# Altium schematic symbol library 无刷驱动-Infineon-AUIRS2181S-GTM-6S.SchLib: 61 symbols (part 1 of 2)
Pins are listed as number, name and electrical type; pins without a type are passive.

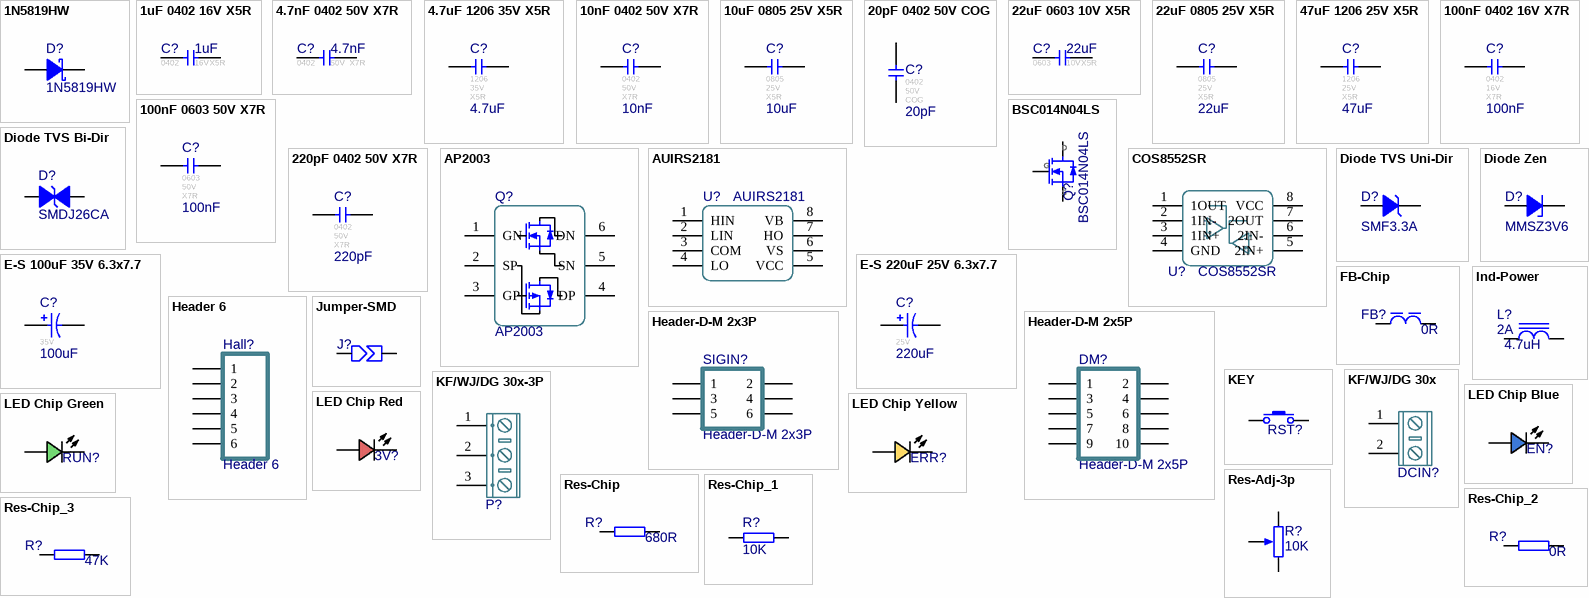
[diagram p0: symbols 1N5819HW to Res-Chip_3]

## 1N5819HW
designator D?
1N5819HW 肖特基二极管; Revision: V1.0; Value: 1N5819HW
footprint SOD-123-L (SOD Diode;2.70mm W X 1.60mm L X 1.35mm H body)
footprint SOD-323 (SOD Diode;1.65mm W X 1.24mm L X 1.16mm H body)
pins: A, K

## 1uF 0402 16V X5R
designator C?, comment value 1uF  FootPrint: 0402  Voltage: 16V  Type: X5R  (hidden comment: 1uF 16V X5R)
贴片瓷片电容; MLCC; 0402(1005);; Revision: V1.0
footprint CAPC1005[0402]-L (0402贴片电容 无丝印 2脚 1.00x0.50mm IPC高密度)
footprint CAPC1005[0402]-M (0402贴片电容 无丝印 2脚 1.00x0.50mm IPC低密度)
footprint CAPC1005[0402]-N (0402贴片电容 无丝印 2脚 1.00x0.50mm IPC中密度)
footprint CAPC1005[0402]S-L (0402贴片电容 有丝印 2脚 1.00x0.50mm IPC高密度)
footprint CAPC1005[0402]S-M (0402贴片电容 有丝印 2脚 1.00x0.50mm IPC低密度)
footprint CAPC1005[0402]S-N (0402贴片电容 有丝印 2脚 1.00x0.50mm IPC中密度)
pins: 1, 2

## 4.7nF 0402 50V X7R
designator C?, comment value 4.7nF  FootPrint: 0402  Voltage: 50V  Type: X7R  (hidden comment: 4.7nF 50V X7R)
贴片瓷片电容; MLCC; 0402(1005);; Revision: V1.0
footprint CAPC1005[0402]-L (0402贴片电容 无丝印 2脚 1.00x0.50mm IPC高密度)
footprint CAPC1005[0402]-M (0402贴片电容 无丝印 2脚 1.00x0.50mm IPC低密度)
footprint CAPC1005[0402]-N (0402贴片电容 无丝印 2脚 1.00x0.50mm IPC中密度)
footprint CAPC1005[0402]S-L (0402贴片电容 有丝印 2脚 1.00x0.50mm IPC高密度)
footprint CAPC1005[0402]S-M (0402贴片电容 有丝印 2脚 1.00x0.50mm IPC低密度)
footprint CAPC1005[0402]S-N (0402贴片电容 有丝印 2脚 1.00x0.50mm IPC中密度)
pins: 1, 2

## 4.7uF 1206 35V X5R
designator C?, comment value 4.7uF  FootPrint: 1206  Voltage: 35V  Type: X5R  (hidden comment: 4.7uF 35V X5R)
贴片瓷片电容; MLCC; 1206(3216);; Revision: V1.0
footprint CAPC3216[1206] (1206贴片电容 无丝印 2脚 3.20x1.60mm IPC中密度)
footprint CAPC3216[1206]S (1206贴片电容 有丝印 2脚 3.20x1.60mm IPC中密度)
pins: 1, 2

## 10nF 0402 50V X7R
designator C?, comment value 10nF  FootPrint: 0402  Voltage: 50V  Type: X7R  (hidden comment: 10nF 50V X7R)
贴片瓷片电容; MLCC; 0402(1005);; Revision: V1.0
footprint CAPC1005[0402]-L (0402贴片电容 无丝印 2脚 1.00x0.50mm IPC高密度)
footprint CAPC1005[0402]-M (0402贴片电容 无丝印 2脚 1.00x0.50mm IPC低密度)
footprint CAPC1005[0402]-N (0402贴片电容 无丝印 2脚 1.00x0.50mm IPC中密度)
footprint CAPC1005[0402]S-L (0402贴片电容 有丝印 2脚 1.00x0.50mm IPC高密度)
footprint CAPC1005[0402]S-M (0402贴片电容 有丝印 2脚 1.00x0.50mm IPC低密度)
footprint CAPC1005[0402]S-N (0402贴片电容 有丝印 2脚 1.00x0.50mm IPC中密度)
pins: 1, 2

## 10uF 0805 25V X5R
designator C?, comment value 10uF  FootPrint: 0805  Voltage: 25V  Type: X5R  (hidden comment: 10uF 25V X5R)
贴片瓷片电容; MLCC; 0805(2012);; Revision: V1.0
footprint CAPC2012[0805] (0805贴片电容 无丝印 2脚 2.00x1.20mm IPC中密度)
footprint CAPC2012[0805]S-L (0805贴片电容 有丝印 2脚 2.00x1.20mm IPC高密度)
footprint CAPC2012[0805]S-M (0805贴片电容 有丝印 2脚 2.00x1.20mm IPC低密度)
footprint CAPC2012[0805]S-N (0805贴片电容 有丝印 2脚 2.00x1.20mm IPC中密度)
pins: 1, 2

## 20pF 0402 50V COG
designator C?, comment value 20pF  FootPrint: 0402  Voltage: 50V  Type: COG  (hidden comment: 20pF 50V COG)
贴片瓷片电容; MLCC; 0402(1005);; Revision: V1.0
footprint CAPC1005[0402]-L (0402贴片电容 无丝印 2脚 1.00x0.50mm IPC高密度)
footprint CAPC1005[0402]-M (0402贴片电容 无丝印 2脚 1.00x0.50mm IPC低密度)
footprint CAPC1005[0402]-N (0402贴片电容 无丝印 2脚 1.00x0.50mm IPC中密度)
footprint CAPC1005[0402]S-L (0402贴片电容 有丝印 2脚 1.00x0.50mm IPC高密度)
footprint CAPC1005[0402]S-M (0402贴片电容 有丝印 2脚 1.00x0.50mm IPC低密度)
footprint CAPC1005[0402]S-N (0402贴片电容 有丝印 2脚 1.00x0.50mm IPC中密度)
pins: 1, 2

## 22uF 0603 10V X5R
designator C?, comment value 22uF  FootPrint: 0603  Voltage: 10V  Type: X5R  (hidden comment: 22uF 10V X5R)
贴片瓷片电容; MLCC; 0603(1608);; Revision: V1.0
footprint CAPC1608[0603]-L (0603贴片电容 无丝印 2脚 1.60x0.80mm IPC高密度)
footprint CAPC1608[0603]-M (0603贴片电容 无丝印 2脚 1.60x0.80mm IPC低密度)
footprint CAPC1608[0603]-N (0603贴片电容 无丝印 2脚 1.60x0.80mm IPC中密度)
footprint CAPC1608[0603]S-L (0603贴片电容 有丝印 2脚 1.60x0.80mm IPC高密度)
footprint CAPC1608[0603]S-M (0603贴片电容 有丝印 2脚 1.60x0.80mm IPC低密度)
footprint CAPC1608[0603]S-N (0603贴片电容 有丝印 2脚 1.60x0.80mm IPC中密度)
pins: 1, 2

## 22uF 0805 25V X5R
designator C?, comment value 22uF  FootPrint: 0805  Voltage: 25V  Type: X5R  (hidden comment: 22uF 25V X5R)
贴片瓷片电容; MLCC; 0805(2012);; Revision: V1.0
footprint CAPC2012[0805] (0805贴片电容 无丝印 2脚 2.00x1.20mm IPC中密度)
footprint CAPC2012[0805]S-L (0805贴片电容 有丝印 2脚 2.00x1.20mm IPC高密度)
footprint CAPC2012[0805]S-M (0805贴片电容 有丝印 2脚 2.00x1.20mm IPC低密度)
footprint CAPC2012[0805]S-N (0805贴片电容 有丝印 2脚 2.00x1.20mm IPC中密度)
pins: 1, 2

## 47uF 1206 25V X5R
designator C?, comment value 47uF  FootPrint: 1206  Voltage: 25V  Type: X5R  (hidden comment: 47uF 25V X5R)
贴片瓷片电容; MLCC; 1206(3216);; Revision: V1.0
footprint CAPC3216[1206] (1206贴片电容 无丝印 2脚 3.20x1.60mm IPC中密度)
footprint CAPC3216[1206]S (1206贴片电容 有丝印 2脚 3.20x1.60mm IPC中密度)
pins: 1, 2

## 100nF 0402 16V X7R
designator C?, comment value 100nF  FootPrint: 0402  Voltage: 16V  Type: X7R  (hidden comment: 100nF 16V X7R)
贴片瓷片电容; MLCC; 0402(1005);; Revision: V1.0
footprint CAPC1005[0402]-L (0402贴片电容 无丝印 2脚 1.00x0.50mm IPC高密度)
footprint CAPC1005[0402]-M (0402贴片电容 无丝印 2脚 1.00x0.50mm IPC低密度)
footprint CAPC1005[0402]-N (0402贴片电容 无丝印 2脚 1.00x0.50mm IPC中密度)
footprint CAPC1005[0402]S-L (0402贴片电容 有丝印 2脚 1.00x0.50mm IPC高密度)
footprint CAPC1005[0402]S-M (0402贴片电容 有丝印 2脚 1.00x0.50mm IPC低密度)
footprint CAPC1005[0402]S-N (0402贴片电容 有丝印 2脚 1.00x0.50mm IPC中密度)
pins: 1, 2

## 100nF 0603 50V X7R
designator C?, comment value 100nF  FootPrint: 0603  Voltage: 50V  Type: X7R  (hidden comment: 100nF 50V X7R)
贴片瓷片电容; MLCC; 0603(1608);; Revision: V1.0
footprint CAPC1608[0603]-L (0603贴片电容 无丝印 2脚 1.60x0.80mm IPC高密度)
footprint CAPC1608[0603]-M (0603贴片电容 无丝印 2脚 1.60x0.80mm IPC低密度)
footprint CAPC1608[0603]-N (0603贴片电容 无丝印 2脚 1.60x0.80mm IPC中密度)
footprint CAPC1608[0603]S-L (0603贴片电容 有丝印 2脚 1.60x0.80mm IPC高密度)
footprint CAPC1608[0603]S-M (0603贴片电容 有丝印 2脚 1.60x0.80mm IPC低密度)
footprint CAPC1608[0603]S-N (0603贴片电容 有丝印 2脚 1.60x0.80mm IPC中密度)
pins: 1, 2

## 220pF 0402 50V X7R
designator C?, comment value 220pF  FootPrint: 0402  Voltage: 50V  Type: X7R  (hidden comment: 220pF 50V X7R)
贴片瓷片电容; MLCC; 0402(1005);; Revision: V1.0
footprint CAPC1005[0402]-L (0402贴片电容 无丝印 2脚 1.00x0.50mm IPC高密度)
footprint CAPC1005[0402]-M (0402贴片电容 无丝印 2脚 1.00x0.50mm IPC低密度)
footprint CAPC1005[0402]-N (0402贴片电容 无丝印 2脚 1.00x0.50mm IPC中密度)
footprint CAPC1005[0402]S-L (0402贴片电容 有丝印 2脚 1.00x0.50mm IPC高密度)
footprint CAPC1005[0402]S-M (0402贴片电容 有丝印 2脚 1.00x0.50mm IPC低密度)
footprint CAPC1005[0402]S-N (0402贴片电容 有丝印 2脚 1.00x0.50mm IPC中密度)
pins: 1, 2

## AP2003
designator Q?
AP2003 N+P
footprint SOT-23-6 (SOT23, 6-Leads, Body 2.90x2.80mm, Pitch 0.95mm, IPC Medium Density)
pins: 1 GN, 2 SP, 3 GP, 4 DP, 5 SN, 6 DN

## AUIRS2181
designator U?
footprint SOP-8 (SOIC,1.27mm pitch;8 pin,3.90mm W X 4.88mm L X 1.73mm H body)
pins: 1 HIN, 2 LIN, 3 COM, 4 LO, 5 VCC, 6 VS, 7 HO, 8 VB

## BSC014N04LS
designator Q?
英飞凌 N沟 MOS
footprint TDSON-8
pins: 1 D, 2 G, 3 S

## COS8552SR
designator U?
COS8552SR 二路通用运算放大器
footprint SOP-8 (SOIC,1.27mm pitch;8 pin,3.90mm W X 4.88mm L X 1.73mm H body)
pins: 1 1OUT, 2 1IN-, 3 1IN+, 4 GND, 5 2IN+, 6 2IN-, 7 2OUT, 8 VCC

## Diode TVS Bi-Dir
designator D?, comment SMDJ26CA
TRANSIENT VOLTAGE  SUPPRESSOR DIODE; Imax: 500mA; Published: 8-Jun-2000; Publisher: Altium Limited; Price(RMB): 0.000
footprint DO-41 (Diode,Axial;8.30mm C X 0.70mm W 4.60mm L X 2.40mm Dia)
footprint SMA[DO-214AC] (Molded Diode, 2-Leads, Body 5.00x2.49mm, IPC Medium Density)
footprint SMB[DO-214AA] (Molded Diode, 2-Leads, Body 5.30x3.55mm, IPC Medium Density)
footprint SMC[DO-214AB] (Molded Diode, 2-Leads, Body 7.94x5.90mm, IPC Medium Density)
footprint SOD-123-FL (SOD Diode;2.70mm W X 1.60mm L X 1.35mm H body)
footprint SOD-323 (SOD Diode;1.65mm W X 1.24mm L X 1.16mm H body)
footprint SOD-523-M (SODFL Diode;1.20mm W X 0.80mm L X 0.70mm H body)
footprint SOD-123-L (SOD Diode;2.70mm W X 1.60mm L X 1.35mm H body)
footprint SOD-123-M (SOD Diode;2.70mm W X 1.60mm L X 1.35mm H body)
footprint SOD-523-L (SODFL Diode;1.20mm W X 0.80mm L X 0.70mm H body)
footprint SMC[DO-214AB]-Bi (Molded Diode, 2-Leads, Body 7.94x5.90mm, IPC Medium Density)
pins: A, K

## Diode TVS Uni-Dir
designator D?, comment SMF3.3A
TRANSIENT VOLTAGE  SUPPRESSOR DIODE; Imax: 500mA; Published: 8-Jun-2000; Publisher: Altium Limited; Price(RMB): 0.000
footprint DO-41 (Diode,Axial;8.30mm C X 0.70mm W 4.60mm L X 2.40mm Dia)
footprint SMA[DO-214AC] (Molded Diode, 2-Leads, Body 5.00x2.49mm, IPC Medium Density)
footprint SMB[DO-214AA] (Molded Diode, 2-Leads, Body 5.30x3.55mm, IPC Medium Density)
footprint SMC[DO-214AB] (Molded Diode, 2-Leads, Body 7.94x5.90mm, IPC Medium Density)
footprint SOD-123-FL (SOD Diode;2.70mm W X 1.60mm L X 1.35mm H body)
footprint SOD-323 (SOD Diode;1.65mm W X 1.24mm L X 1.16mm H body)
footprint SOD-123-L (SOD Diode;2.70mm W X 1.60mm L X 1.35mm H body)
footprint SOD-523-L (SODFL Diode;1.20mm W X 0.80mm L X 0.70mm H body)
footprint SOD-123-M (SOD Diode;2.70mm W X 1.60mm L X 1.35mm H body)
footprint SOD-523-M (SODFL Diode;1.20mm W X 0.80mm L X 0.70mm H body)
pins: A, K

## Diode Zen
designator D?, comment MMSZ3V6
稳压二极管 齐纳二极管  Zener Diode; Published: 8-Jun-2000; Revision: July-2002: Re-released for DXP Platform.; Publisher: Altium Limited; Price(RMB): 0.000
footprint DIODE-0.7 (Zener Diode; 2 Leads)
footprint DIODE-0.4
footprint SOD-87[LL-41] (MELF Diode, 2-Leads, Body 5.00x2.49mm, IPC Medium Density)
footprint CD4521-1808
footprint SOD-80[LL-34] (MELF Diode, 2-Leads, Body 3.55x1.65mm, IPC Medium Density)
footprint SOD-123-FL (SOD Diode;2.70mm W X 1.60mm L X 1.35mm H body)
footprint SOD-123-L (SOD Diode;2.70mm W X 1.60mm L X 1.35mm H body)
footprint SOD-123-M (SOD Diode;2.70mm W X 1.60mm L X 1.35mm H body)
footprint SOD-323 (SOD Diode;1.65mm W X 1.24mm L X 1.16mm H body)
footprint SOD-523-L (SODFL Diode;1.20mm W X 0.80mm L X 0.70mm H body)
footprint SOD-523-M (SODFL Diode;1.20mm W X 0.80mm L X 0.70mm H body)
pins: A, K

## E-S 100uF 35V 6.3x7.7
designator C?, comment value 100uF  Voltage: 35V  (hidden comment: 100uF 35V 铝电解)
贴片电解电容 100uF 35V 6.3x7.7; Revision: V1.0; Type: 铝电解
footprint CAP-E-S 6.3 (贴片 铝电解电容 6.3mm)
pins: 1, 2

## E-S 220uF 25V 6.3x7.7
designator C?, comment value 220uF  Voltage: 25V  (hidden comment: 220uF 25V 铝电解)
贴片电解电容 220uF 25V 6.3x7.7; Revision: V1.0; Type: 铝电解
footprint CAP-E-S 6.3 (贴片 铝电解电容 6.3mm)
pins: 1, 2

## FB-Chip
designator FB?, comment value 0R  (hidden comment: 0R @100MHz 500mA)
贴片磁珠; DCR: .1m; Published: 2020-12-18; Revision: V1.0; Frequency: @100MHz; Imax: 500mA
footprint INDC1608[0603]S (Not in IPC, Chip Inductor,Silkscreen Border, 2-Leads, Body 1.60x0.80mm, IPC Medium Density)
footprint INDC2012[0805]S (Chip Inductor,Silkscreen Border, 2-Leads, Body 2.00x0.90mm, IPC Medium Density)
footprint INDC3216[1206]S (Chip Inductor,Silkscreen Border, 2-Leads, Body 3.20x1.60mm, IPC Medium Density)
footprint INDC4509[1806]S (Chip Inductor,Silkscreen Border, 2-Leads, Body 4.50x0.90mm, IPC Medium Density)
footprint INDC1005[0402] (Chip Inductor, 2-Leads, Body 1.00x0.50mm, IPC Medium Density)
footprint INDC1608[0603] (Chip Inductor, 2-Leads, Body 1.60x0.80mm, IPC Medium Density)
footprint INDC2012[0805] (Chip Inductor, 2-Leads, Body 2.00x0.90mm, IPC Medium Density)
footprint INDC3216[1206] (Chip Inductor, 2-Leads, Body 3.20x1.60mm, IPC Medium Density)
footprint INDC3225[1210] (Capacitor,non-polarized,Chip;3.20mm L X 2.50mm W X 1.35mm H)
footprint INDC3216[1206] (Chip Inductor, 2-Leads, Body 3.20x1.60mm, IPC Medium Density)
footprint INDC1005[0402]S (Chip Inductor, 2-Leads, Body 1.00x0.50mm, IPC Medium Density)
pins: 1, 2

## Header 6
designator Hall?
Header, 6-Pin; LatestRevisionDate: 17-Jul-2002; LatestRevisionNote: Re-released for DXP Platform.; Publisher: Altium Limited; Price(RMB): 0.00
footprint HDR1X6 (Connector; Header; 6 Position)
signal-integrity model Connector
footprint PH2.0-6 (PH2.0 9 pin)
footprint XH2.54-6
footprint VH3.96-6
footprint GH1.25T-6P (线对板 1.25mm间距 6P 表贴连接座)
footprint ZH1.5-6P-SH (ZH1.5-6P 贴片 卧式)
pins: 1, 2, 3, 4, 5, 6

## Header-D-M 2x3P
designator SIGIN?
2x3pin, 直插, 双排针; Revision: V1.0; Value: Header-D-M 2x3P
footprint HDR2X3-M (2x3pin, 2.54mm间距, 直插, 直排针)
pins: 1, 2, 3, 4, 5, 6

## Header-D-M 2x5P
designator DM?
2x5pin, 直插, 双排针; Revision: V1.0; Value: Header-D-M 2x5P
footprint HDR2X5-M (2x5pin, 2.54mm间距, 直插, 直排针)
pins: 1, 2, 3, 4, 5, 6, 7, 8, 9, 10

## Ind-Power
designator L?, comment value 4.7uH  Imax: 2A  (hidden comment: 4.7uH 2A)
功率电感; DCR: .5m; Published: 8-Jun-2000; Revision: July-2002: Re-released for DXP Platform.; Publisher: Altium Limited; Price(RMB): 0.000
footprint CD31
footprint CD32
footprint CD42
footprint CD43
footprint CD52
footprint CD53
footprint CD54
footprint CD73
footprint CD75
footprint CD104
footprint CD105
footprint CD106
footprint 127 Shielded 12.5*12.5*7 (12.5mmx12.5mmx7mm 屏蔽电感)
footprint 0630 TPC 7*7*3 (12mmx12mmx6.5mm 一体成型功率电感)
footprint 1050 TPC 10*10*5 (12mmx12mmx6.5mm 一体成型功率电感)
footprint 1265 TPC 12*12*6.5 (12mmx12mmx6.5mm 一体成型功率电感)
footprint CD104R
footprint SLO2520
footprint 1365 TPC 13*13*6.5 (13mmx13mmx6.5mm 一体成型功率电感)
footprint INDUCTOR (工字电感 安装板专用封装)
footprint 0402 TPC 4*4*2 (4.2mm x 4.4mm x 2mm 一体成型功率电感)
pins: 1, 2

## Jumper-SMD
designator J?, comment Jumper  (value not drawn)
表贴式跳线，兼容电阻封装
footprint Jumper-SMD-0402 (0402 表贴式跳线 无丝印)
footprint Jumper-SMD-0603 (0603 表贴式跳线 无丝印)
footprint Jumper-SMD-0603-S (0603 表贴式跳线 有丝印)
footprint Jumper-SMD-0805 (0805 表贴式跳线 无丝印)
footprint Jumper-SMD-0805-S (0805 表贴式跳线 有丝印)
pins: 1, 2

## KEY
designator RST?, comment Button  (value not drawn)
按键; Published: 24-Mar-1999; Publisher: Altium Limited; Price(RMB): 0.000
footprint KEY-2-SMD-3*4 (龟仔按键 3*4)
footprint KEY-4-DIP-6*6 (6x6 直插按键封装)
footprint PTS810-3*4-CurvePin (3*4 白色 汽车遥控器贴片按键 包脚)
footprint KEY-2-SMD-3*6-L (3x6贴片按键 高密度)
footprint KEY-2-SMD-3*6-M (3x6贴片按键 低密度)
footprint KEY-4-SMD-6*6 (6x6贴片按键封装)
footprint KEY-2-SMD-Side-3*6*3.5 (7.6x3.5mm 侧按按键)
footprint KEY-4-SMD-12*12 (6x6贴片按键封装)
footprint TS-1809SM-A (3*3.5 贴片4脚按键 (TS-A015))
footprint TS-1199A (星坤TS-1199A 静音按键)
footprint KEY-2-DIP-6*6-S (6x6 直插按键立式封装)
pins: 1, 2

## KF/WJ/DG 30x
designator DCIN?, comment KF/WJ/DG 30x connecter  (value not drawn)
接线端子 2Pin
footprint KF/WJ/DG 301-2p-5.0mm (2P 5.08mm间距 接线端子)
pins: 1, 2

## KF/WJ/DG 30x-3P
designator P?, comment KF/WJ/DG 30x connecter  (value not drawn)
接线端子 3Pin
footprint KF/WJ/DG 301-3p-5.0mm (3P 5.08mm间距 接线端子)
pins: 1, 2, 3 2

## LED Chip Blue
designator EN?, comment 蓝色贴片LED  (value not drawn)
Published: 8-Jun-2000; Revision: July-2002: Re-released for DXP Platform.; Publisher: Altium Limited; Price(RMB): 0.00; Color: Blue
footprint LEDC1608(0603) (LED,Chip;1.60mm L X 0.80mm W X 0.80mm H)
footprint LEDC2012(0805) (LED,Chip;2.00mm L X 1.25mm W X 1.20mm H)
footprint LEDC3216(1206) (LED,Chip;3.20mm L X 1.60mm W X 1.30mm H)
footprint LEDC1608(0603)-L (LED,Chip;1.60mm L X 0.80mm W X 0.80mm H)
footprint LEDC2012(0805)-L (LED,Chip;2.00mm L X 1.25mm W X 1.20mm H)
footprint LEDC3216(1204) (LED,Chip;3.20mm L X 1.60mm W X 1.30mm H)
footprint LEDC3528-2 (3528 2脚 贴片LED)
pins: A, C

## LED Chip Green
designator RUN?, comment 翠绿贴片LED  (value not drawn)
Published: 8-Jun-2000; Revision: July-2002: Re-released for DXP Platform.; Publisher: Altium Limited; Price(RMB): 0.00
footprint LEDC1608(0603) (LED,Chip;1.60mm L X 0.80mm W X 0.80mm H)
footprint LEDC2012(0805) (LED,Chip;2.00mm L X 1.25mm W X 1.20mm H)
footprint LEDC3216(1206) (LED,Chip;3.20mm L X 1.60mm W X 1.30mm H)
footprint LEDC1608(0603)-L (LED,Chip;1.60mm L X 0.80mm W X 0.80mm H)
footprint LEDC2012(0805)-L (LED,Chip;2.00mm L X 1.25mm W X 1.20mm H)
footprint LEDC3216(1204) (LED,Chip;3.20mm L X 1.60mm W X 1.30mm H)
footprint LEDC3528-2 (3528 2脚 贴片LED)
pins: A, C

## LED Chip Red
designator 3V?, comment 红色贴片LED  (value not drawn)
Published: 8-Jun-2000; Revision: July-2002: Re-released for DXP Platform.; Publisher: Altium Limited; Price(RMB): 0.00
footprint LEDC1608(0603) (LED,Chip;1.60mm L X 0.80mm W X 0.80mm H)
footprint LEDC2012(0805) (LED,Chip;2.00mm L X 1.25mm W X 1.20mm H)
footprint LEDC3216(1206) (LED,Chip;3.20mm L X 1.60mm W X 1.30mm H)
footprint LEDC1608(0603)-L (LED,Chip;1.60mm L X 0.80mm W X 0.80mm H)
footprint LEDC2012(0805)-L (LED,Chip;2.00mm L X 1.25mm W X 1.20mm H)
footprint LEDC3216(1204) (LED,Chip;3.20mm L X 1.60mm W X 1.30mm H)
footprint LEDC3528-2 (3528 2脚 贴片LED)
pins: A, C

## LED Chip Yellow
designator ERR?, comment 黄色贴片LED  (value not drawn)
Published: 8-Jun-2000; Revision: July-2002: Re-released for DXP Platform.; Publisher: Altium Limited; Price(RMB): 0.00
footprint LEDC1608(0603) (LED,Chip;1.60mm L X 0.80mm W X 0.80mm H)
footprint LEDC2012(0805) (LED,Chip;2.00mm L X 1.25mm W X 1.20mm H)
footprint LEDC3216(1206) (LED,Chip;3.20mm L X 1.60mm W X 1.30mm H)
footprint LEDC1608(0603)-L (LED,Chip;1.60mm L X 0.80mm W X 0.80mm H)
footprint LEDC2012(0805)-L (LED,Chip;2.00mm L X 1.25mm W X 1.20mm H)
footprint LEDC3216(1204) (LED,Chip;3.20mm L X 1.60mm W X 1.30mm H)
footprint LEDC3528-2 (3528 2脚 贴片LED)
pins: A, C

## Res-Adj-3p
designator R?, comment 10K
可调电阻; Revision: V1.0; Value: 10K
footprint EVM3-3x3ADJ (3x3贴片电位器)
footprint RESPOT3296W (3296W 精密可调电阻 顶调)
footprint RESPOT3296X (3296X 精密可调电阻 侧调)
footprint RESPOT3362 (Precise Multi-Winding Adjustable Resistor)
footprint RESPOT3386P (3386P型 单圈带柄电位器)
pins: 1 TOP, 2 BOT, ADJ

## Res-Chip
designator R?, comment value 680R  (hidden comment: 680R ±1%)
贴片电阻; Power: 1/8W; Revision: V1.0; Tolerance: ±1%
footprint RESC0603[0201]-L (0201贴片电阻 无丝印 2脚 0.60x0.30mm IPC高密度)
footprint RESC0603[0201]-M (0201贴片电阻 无丝印 2脚 0.60x0.30mm IPC低密度)
footprint RESC0603[0201]-N (0201贴片电阻 无丝印 2脚 0.60x0.30mm IPC中密度)
footprint RESC0603[0201]S-L (0201贴片电阻 有丝印 2脚 0.60x0.30mm IPC高密度)
footprint RESC0603[0201]S-M (0201贴片电阻 有丝印 2脚 0.60x0.30mm IPC低密度)
footprint RESC0603[0201]S-N (0201贴片电阻 有丝印 2脚 0.60x0.30mm IPC中密度)
footprint RESC1005[0402]-L (0402贴片电阻 无丝印 2脚 1.00x0.50mm IPC高密度)
footprint RESC1005[0402]S-M (0402贴片电阻 有丝印 2脚 1.00x0.50mm IPC低密度)
footprint RESC1005[0402]-M (0402贴片电阻 无丝印 2脚 1.00x0.50mm IPC低密度)
footprint RESC1005[0402]-N (0402贴片电阻 无丝印 2脚 1.00x0.50mm IPC中密度)
footprint RESC1005[0402]S-L (0402贴片电阻 有丝印 2脚 1.00x0.50mm IPC高密度)
footprint RESC1005[0402]S-N (0402贴片电阻 有丝印 2脚 1.00x0.50mm IPC中密度)
footprint RESC1608[0603]-L (0603贴片电阻 无丝印 2脚 1.60x0.80mm IPC高密度)
footprint RESC1608[0603]-M (0603贴片电阻 无丝印 2脚 1.60x0.80mm IPC低密度)
footprint RESC1608[0603]-N (0603贴片电阻 无丝印 2脚 1.60x0.80mm IPC中密度)
footprint RESC1608[0603]S-L (0603贴片电阻 有丝印 2脚 1.60x0.80mm IPC高密度)
footprint RESC1608[0603]S-M (0603贴片电阻 有丝印 2脚 1.60x0.80mm IPC低密度)
footprint RESC1608[0603]S-N (0603贴片电阻 有丝印 2脚 1.60x0.80mm IPC中密度)
footprint RESC2012[0805] (0805贴片电阻 无丝印 2脚 2.00x1.20mm IPC高密度)
footprint RESC2012[0805]S-L (0805贴片电阻 有丝印 2脚 2.00x1.20mm IPC高密度)
footprint RESC2012[0805]S-M (0805贴片电阻 有丝印 2脚 2.00x1.20mm IPC低密度)
footprint RESC2012[0805]S-N (0805贴片电阻 有丝印 2脚 2.00x1.20mm IPC中密度)
footprint RESC3216[1206] (1206贴片电阻 无丝印 2脚 3.20x1.60mm IPC高密度)
footprint RESC3216[1206]S-L (1206贴片电阻 有丝印 2脚 3.20x1.60mm IPC高密度)
footprint RESC3216[1206]S-M (1206贴片电阻 有丝印 2脚 3.20x1.60mm IPC低密度)
footprint RESC3216[1206]S-N (1206贴片电阻 有丝印 2脚 3.20x1.60mm IPC中密度)
footprint RESC3225[1210] (Chip Resistor, 2-Leads, Body 3.20x2.49mm, IPC Medium Density)
footprint RESC3225[1210]S (Silkscreen Outside, Chip Resistor, 2-Leads, Body 3.20x2.49mm, IPC Medium Density)
footprint RESC5025[2010] (Chip Resistor, 2-Leads, Body 5.00x2.50mm, IPC Medium Density)
footprint RESC5025[2010]S (Silkscreen Outside, Chip Resistor, 2-Leads, Body 5.00x2.50mm, IPC Medium Density)
footprint RESC6332[2512] (2512贴片电阻 无丝印 2脚 6.30x3.20mm IPC中密度)
footprint RESC6332[2512]S (2512贴片电阻 有丝印 2脚 6.30x3.20mm IPC中密度)
pins: 1, 2

## Res-Chip_1
designator R?, comment value 10K  (hidden comment: 10K ±1%)
贴片电阻; Power: 1/8W; Revision: V1.0; Tolerance: ±1%
footprint RESC0603[0201]-L (0201贴片电阻 无丝印 2脚 0.60x0.30mm IPC高密度)
footprint RESC0603[0201]-M (0201贴片电阻 无丝印 2脚 0.60x0.30mm IPC低密度)
footprint RESC0603[0201]-N (0201贴片电阻 无丝印 2脚 0.60x0.30mm IPC中密度)
footprint RESC0603[0201]S-L (0201贴片电阻 有丝印 2脚 0.60x0.30mm IPC高密度)
footprint RESC0603[0201]S-M (0201贴片电阻 有丝印 2脚 0.60x0.30mm IPC低密度)
footprint RESC0603[0201]S-N (0201贴片电阻 有丝印 2脚 0.60x0.30mm IPC中密度)
footprint RESC1005[0402]-L (0402贴片电阻 无丝印 2脚 1.00x0.50mm IPC高密度)
footprint RESC1005[0402]S-M (0402贴片电阻 有丝印 2脚 1.00x0.50mm IPC低密度)
footprint RESC1005[0402]-M (0402贴片电阻 无丝印 2脚 1.00x0.50mm IPC低密度)
footprint RESC1005[0402]-N (0402贴片电阻 无丝印 2脚 1.00x0.50mm IPC中密度)
footprint RESC1005[0402]S-L (0402贴片电阻 有丝印 2脚 1.00x0.50mm IPC高密度)
footprint RESC1005[0402]S-N (0402贴片电阻 有丝印 2脚 1.00x0.50mm IPC中密度)
footprint RESC1608[0603]-L (0603贴片电阻 无丝印 2脚 1.60x0.80mm IPC高密度)
footprint RESC1608[0603]-M (0603贴片电阻 无丝印 2脚 1.60x0.80mm IPC低密度)
footprint RESC1608[0603]-N (0603贴片电阻 无丝印 2脚 1.60x0.80mm IPC中密度)
footprint RESC1608[0603]S-L (0603贴片电阻 有丝印 2脚 1.60x0.80mm IPC高密度)
footprint RESC1608[0603]S-M (0603贴片电阻 有丝印 2脚 1.60x0.80mm IPC低密度)
footprint RESC1608[0603]S-N (0603贴片电阻 有丝印 2脚 1.60x0.80mm IPC中密度)
footprint RESC2012[0805] (0805贴片电阻 无丝印 2脚 2.00x1.20mm IPC高密度)
footprint RESC2012[0805]S-L (0805贴片电阻 有丝印 2脚 2.00x1.20mm IPC高密度)
footprint RESC2012[0805]S-M (0805贴片电阻 有丝印 2脚 2.00x1.20mm IPC低密度)
footprint RESC2012[0805]S-N (0805贴片电阻 有丝印 2脚 2.00x1.20mm IPC中密度)
footprint RESC3216[1206] (1206贴片电阻 无丝印 2脚 3.20x1.60mm IPC高密度)
footprint RESC3216[1206]S-L (1206贴片电阻 有丝印 2脚 3.20x1.60mm IPC高密度)
footprint RESC3216[1206]S-M (1206贴片电阻 有丝印 2脚 3.20x1.60mm IPC低密度)
footprint RESC3216[1206]S-N (1206贴片电阻 有丝印 2脚 3.20x1.60mm IPC中密度)
footprint RESC3225[1210] (Chip Resistor, 2-Leads, Body 3.20x2.49mm, IPC Medium Density)
footprint RESC3225[1210]S (Silkscreen Outside, Chip Resistor, 2-Leads, Body 3.20x2.49mm, IPC Medium Density)
footprint RESC5025[2010] (Chip Resistor, 2-Leads, Body 5.00x2.50mm, IPC Medium Density)
footprint RESC5025[2010]S (Silkscreen Outside, Chip Resistor, 2-Leads, Body 5.00x2.50mm, IPC Medium Density)
footprint RESC6332[2512] (2512贴片电阻 无丝印 2脚 6.30x3.20mm IPC中密度)
footprint RESC6332[2512]S (2512贴片电阻 有丝印 2脚 6.30x3.20mm IPC中密度)
pins: 1, 2

## Res-Chip_2
designator R?, comment value 0R  (hidden comment: 0R ±1%)
贴片电阻; Power: 1/8W; Revision: V1.0; Tolerance: ±1%
footprint RESC0603[0201]-L (0201贴片电阻 无丝印 2脚 0.60x0.30mm IPC高密度)
footprint RESC0603[0201]-M (0201贴片电阻 无丝印 2脚 0.60x0.30mm IPC低密度)
footprint RESC0603[0201]-N (0201贴片电阻 无丝印 2脚 0.60x0.30mm IPC中密度)
footprint RESC0603[0201]S-L (0201贴片电阻 有丝印 2脚 0.60x0.30mm IPC高密度)
footprint RESC0603[0201]S-M (0201贴片电阻 有丝印 2脚 0.60x0.30mm IPC低密度)
footprint RESC0603[0201]S-N (0201贴片电阻 有丝印 2脚 0.60x0.30mm IPC中密度)
footprint RESC1005[0402]-L (0402贴片电阻 无丝印 2脚 1.00x0.50mm IPC高密度)
footprint RESC1005[0402]S-M (0402贴片电阻 有丝印 2脚 1.00x0.50mm IPC低密度)
footprint RESC1005[0402]-M (0402贴片电阻 无丝印 2脚 1.00x0.50mm IPC低密度)
footprint RESC1005[0402]-N (0402贴片电阻 无丝印 2脚 1.00x0.50mm IPC中密度)
footprint RESC1005[0402]S-L (0402贴片电阻 有丝印 2脚 1.00x0.50mm IPC高密度)
footprint RESC1005[0402]S-N (0402贴片电阻 有丝印 2脚 1.00x0.50mm IPC中密度)
footprint RESC1608[0603]-L (0603贴片电阻 无丝印 2脚 1.60x0.80mm IPC高密度)
footprint RESC1608[0603]-M (0603贴片电阻 无丝印 2脚 1.60x0.80mm IPC低密度)
footprint RESC1608[0603]-N (0603贴片电阻 无丝印 2脚 1.60x0.80mm IPC中密度)
footprint RESC1608[0603]S-L (0603贴片电阻 有丝印 2脚 1.60x0.80mm IPC高密度)
footprint RESC1608[0603]S-M (0603贴片电阻 有丝印 2脚 1.60x0.80mm IPC低密度)
footprint RESC1608[0603]S-N (0603贴片电阻 有丝印 2脚 1.60x0.80mm IPC中密度)
footprint RESC2012[0805] (0805贴片电阻 无丝印 2脚 2.00x1.20mm IPC高密度)
footprint RESC2012[0805]S-L (0805贴片电阻 有丝印 2脚 2.00x1.20mm IPC高密度)
footprint RESC2012[0805]S-M (0805贴片电阻 有丝印 2脚 2.00x1.20mm IPC低密度)
footprint RESC2012[0805]S-N (0805贴片电阻 有丝印 2脚 2.00x1.20mm IPC中密度)
footprint RESC3216[1206] (1206贴片电阻 无丝印 2脚 3.20x1.60mm IPC高密度)
footprint RESC3216[1206]S-L (1206贴片电阻 有丝印 2脚 3.20x1.60mm IPC高密度)
footprint RESC3216[1206]S-M (1206贴片电阻 有丝印 2脚 3.20x1.60mm IPC低密度)
footprint RESC3216[1206]S-N (1206贴片电阻 有丝印 2脚 3.20x1.60mm IPC中密度)
footprint RESC3225[1210] (Chip Resistor, 2-Leads, Body 3.20x2.49mm, IPC Medium Density)
footprint RESC3225[1210]S (Silkscreen Outside, Chip Resistor, 2-Leads, Body 3.20x2.49mm, IPC Medium Density)
footprint RESC5025[2010] (Chip Resistor, 2-Leads, Body 5.00x2.50mm, IPC Medium Density)
footprint RESC5025[2010]S (Silkscreen Outside, Chip Resistor, 2-Leads, Body 5.00x2.50mm, IPC Medium Density)
footprint RESC6332[2512] (2512贴片电阻 无丝印 2脚 6.30x3.20mm IPC中密度)
footprint RESC6332[2512]S (2512贴片电阻 有丝印 2脚 6.30x3.20mm IPC中密度)
pins: 1, 2

## Res-Chip_3
designator R?, comment value 47K  (hidden comment: 47K ±1%)
贴片电阻; Power: 1/8W; Revision: V1.0; Tolerance: ±1%
footprint RESC0603[0201]-L (0201贴片电阻 无丝印 2脚 0.60x0.30mm IPC高密度)
footprint RESC0603[0201]-M (0201贴片电阻 无丝印 2脚 0.60x0.30mm IPC低密度)
footprint RESC0603[0201]-N (0201贴片电阻 无丝印 2脚 0.60x0.30mm IPC中密度)
footprint RESC0603[0201]S-L (0201贴片电阻 有丝印 2脚 0.60x0.30mm IPC高密度)
footprint RESC0603[0201]S-M (0201贴片电阻 有丝印 2脚 0.60x0.30mm IPC低密度)
footprint RESC0603[0201]S-N (0201贴片电阻 有丝印 2脚 0.60x0.30mm IPC中密度)
footprint RESC1005[0402]-L (0402贴片电阻 无丝印 2脚 1.00x0.50mm IPC高密度)
footprint RESC1005[0402]S-M (0402贴片电阻 有丝印 2脚 1.00x0.50mm IPC低密度)
footprint RESC1005[0402]-M (0402贴片电阻 无丝印 2脚 1.00x0.50mm IPC低密度)
footprint RESC1005[0402]-N (0402贴片电阻 无丝印 2脚 1.00x0.50mm IPC中密度)
footprint RESC1005[0402]S-L (0402贴片电阻 有丝印 2脚 1.00x0.50mm IPC高密度)
footprint RESC1005[0402]S-N (0402贴片电阻 有丝印 2脚 1.00x0.50mm IPC中密度)
footprint RESC1608[0603]-L (0603贴片电阻 无丝印 2脚 1.60x0.80mm IPC高密度)
footprint RESC1608[0603]-M (0603贴片电阻 无丝印 2脚 1.60x0.80mm IPC低密度)
footprint RESC1608[0603]-N (0603贴片电阻 无丝印 2脚 1.60x0.80mm IPC中密度)
footprint RESC1608[0603]S-L (0603贴片电阻 有丝印 2脚 1.60x0.80mm IPC高密度)
footprint RESC1608[0603]S-M (0603贴片电阻 有丝印 2脚 1.60x0.80mm IPC低密度)
footprint RESC1608[0603]S-N (0603贴片电阻 有丝印 2脚 1.60x0.80mm IPC中密度)
footprint RESC2012[0805] (0805贴片电阻 无丝印 2脚 2.00x1.20mm IPC高密度)
footprint RESC2012[0805]S-L (0805贴片电阻 有丝印 2脚 2.00x1.20mm IPC高密度)
footprint RESC2012[0805]S-M (0805贴片电阻 有丝印 2脚 2.00x1.20mm IPC低密度)
footprint RESC2012[0805]S-N (0805贴片电阻 有丝印 2脚 2.00x1.20mm IPC中密度)
footprint RESC3216[1206] (1206贴片电阻 无丝印 2脚 3.20x1.60mm IPC高密度)
footprint RESC3216[1206]S-L (1206贴片电阻 有丝印 2脚 3.20x1.60mm IPC高密度)
footprint RESC3216[1206]S-M (1206贴片电阻 有丝印 2脚 3.20x1.60mm IPC低密度)
footprint RESC3216[1206]S-N (1206贴片电阻 有丝印 2脚 3.20x1.60mm IPC中密度)
footprint RESC3225[1210] (Chip Resistor, 2-Leads, Body 3.20x2.49mm, IPC Medium Density)
footprint RESC3225[1210]S (Silkscreen Outside, Chip Resistor, 2-Leads, Body 3.20x2.49mm, IPC Medium Density)
footprint RESC5025[2010] (Chip Resistor, 2-Leads, Body 5.00x2.50mm, IPC Medium Density)
footprint RESC5025[2010]S (Silkscreen Outside, Chip Resistor, 2-Leads, Body 5.00x2.50mm, IPC Medium Density)
footprint RESC6332[2512] (2512贴片电阻 无丝印 2脚 6.30x3.20mm IPC中密度)
footprint RESC6332[2512]S (2512贴片电阻 有丝印 2脚 6.30x3.20mm IPC中密度)
pins: 1, 2

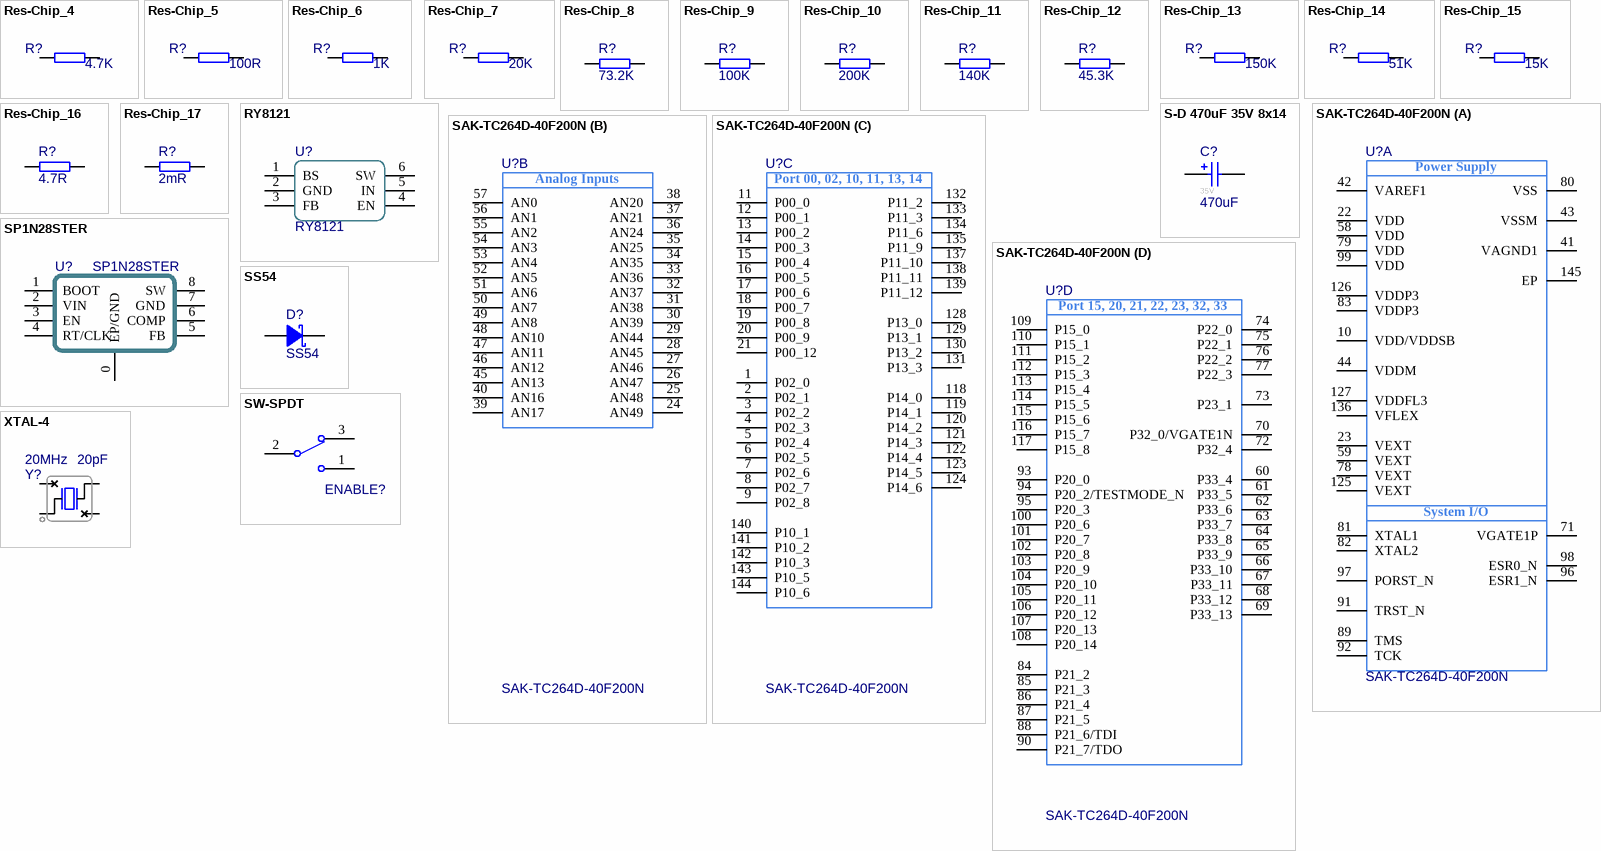
[diagram p1: symbols Res-Chip_4 to XTAL-4]

## Res-Chip_4
designator R?, comment value 4.7K  (hidden comment: 4.7K ±1%)
贴片电阻; Power: 1/8W; Revision: V1.0; Tolerance: ±1%
footprint RESC0603[0201]-L (0201贴片电阻 无丝印 2脚 0.60x0.30mm IPC高密度)
footprint RESC0603[0201]-M (0201贴片电阻 无丝印 2脚 0.60x0.30mm IPC低密度)
footprint RESC0603[0201]-N (0201贴片电阻 无丝印 2脚 0.60x0.30mm IPC中密度)
footprint RESC0603[0201]S-L (0201贴片电阻 有丝印 2脚 0.60x0.30mm IPC高密度)
footprint RESC0603[0201]S-M (0201贴片电阻 有丝印 2脚 0.60x0.30mm IPC低密度)
footprint RESC0603[0201]S-N (0201贴片电阻 有丝印 2脚 0.60x0.30mm IPC中密度)
footprint RESC1005[0402]-L (0402贴片电阻 无丝印 2脚 1.00x0.50mm IPC高密度)
footprint RESC1005[0402]S-M (0402贴片电阻 有丝印 2脚 1.00x0.50mm IPC低密度)
footprint RESC1005[0402]-M (0402贴片电阻 无丝印 2脚 1.00x0.50mm IPC低密度)
footprint RESC1005[0402]-N (0402贴片电阻 无丝印 2脚 1.00x0.50mm IPC中密度)
footprint RESC1005[0402]S-L (0402贴片电阻 有丝印 2脚 1.00x0.50mm IPC高密度)
footprint RESC1005[0402]S-N (0402贴片电阻 有丝印 2脚 1.00x0.50mm IPC中密度)
footprint RESC1608[0603]-L (0603贴片电阻 无丝印 2脚 1.60x0.80mm IPC高密度)
footprint RESC1608[0603]-M (0603贴片电阻 无丝印 2脚 1.60x0.80mm IPC低密度)
footprint RESC1608[0603]-N (0603贴片电阻 无丝印 2脚 1.60x0.80mm IPC中密度)
footprint RESC1608[0603]S-L (0603贴片电阻 有丝印 2脚 1.60x0.80mm IPC高密度)
footprint RESC1608[0603]S-M (0603贴片电阻 有丝印 2脚 1.60x0.80mm IPC低密度)
footprint RESC1608[0603]S-N (0603贴片电阻 有丝印 2脚 1.60x0.80mm IPC中密度)
footprint RESC2012[0805] (0805贴片电阻 无丝印 2脚 2.00x1.20mm IPC高密度)
footprint RESC2012[0805]S-L (0805贴片电阻 有丝印 2脚 2.00x1.20mm IPC高密度)
footprint RESC2012[0805]S-M (0805贴片电阻 有丝印 2脚 2.00x1.20mm IPC低密度)
footprint RESC2012[0805]S-N (0805贴片电阻 有丝印 2脚 2.00x1.20mm IPC中密度)
footprint RESC3216[1206] (1206贴片电阻 无丝印 2脚 3.20x1.60mm IPC高密度)
footprint RESC3216[1206]S-L (1206贴片电阻 有丝印 2脚 3.20x1.60mm IPC高密度)
footprint RESC3216[1206]S-M (1206贴片电阻 有丝印 2脚 3.20x1.60mm IPC低密度)
footprint RESC3216[1206]S-N (1206贴片电阻 有丝印 2脚 3.20x1.60mm IPC中密度)
footprint RESC3225[1210] (Chip Resistor, 2-Leads, Body 3.20x2.49mm, IPC Medium Density)
footprint RESC3225[1210]S (Silkscreen Outside, Chip Resistor, 2-Leads, Body 3.20x2.49mm, IPC Medium Density)
footprint RESC5025[2010] (Chip Resistor, 2-Leads, Body 5.00x2.50mm, IPC Medium Density)
footprint RESC5025[2010]S (Silkscreen Outside, Chip Resistor, 2-Leads, Body 5.00x2.50mm, IPC Medium Density)
footprint RESC6332[2512] (2512贴片电阻 无丝印 2脚 6.30x3.20mm IPC中密度)
footprint RESC6332[2512]S (2512贴片电阻 有丝印 2脚 6.30x3.20mm IPC中密度)
pins: 1, 2

## Res-Chip_5
designator R?, comment value 100R  (hidden comment: 100R ±1%)
贴片电阻; Power: 1/8W; Revision: V1.0; Tolerance: ±1%
footprint RESC0603[0201]-L (0201贴片电阻 无丝印 2脚 0.60x0.30mm IPC高密度)
footprint RESC0603[0201]-M (0201贴片电阻 无丝印 2脚 0.60x0.30mm IPC低密度)
footprint RESC0603[0201]-N (0201贴片电阻 无丝印 2脚 0.60x0.30mm IPC中密度)
footprint RESC0603[0201]S-L (0201贴片电阻 有丝印 2脚 0.60x0.30mm IPC高密度)
footprint RESC0603[0201]S-M (0201贴片电阻 有丝印 2脚 0.60x0.30mm IPC低密度)
footprint RESC0603[0201]S-N (0201贴片电阻 有丝印 2脚 0.60x0.30mm IPC中密度)
footprint RESC1005[0402]-L (0402贴片电阻 无丝印 2脚 1.00x0.50mm IPC高密度)
footprint RESC1005[0402]S-M (0402贴片电阻 有丝印 2脚 1.00x0.50mm IPC低密度)
footprint RESC1005[0402]-M (0402贴片电阻 无丝印 2脚 1.00x0.50mm IPC低密度)
footprint RESC1005[0402]-N (0402贴片电阻 无丝印 2脚 1.00x0.50mm IPC中密度)
footprint RESC1005[0402]S-L (0402贴片电阻 有丝印 2脚 1.00x0.50mm IPC高密度)
footprint RESC1005[0402]S-N (0402贴片电阻 有丝印 2脚 1.00x0.50mm IPC中密度)
footprint RESC1608[0603]-L (0603贴片电阻 无丝印 2脚 1.60x0.80mm IPC高密度)
footprint RESC1608[0603]-M (0603贴片电阻 无丝印 2脚 1.60x0.80mm IPC低密度)
footprint RESC1608[0603]-N (0603贴片电阻 无丝印 2脚 1.60x0.80mm IPC中密度)
footprint RESC1608[0603]S-L (0603贴片电阻 有丝印 2脚 1.60x0.80mm IPC高密度)
footprint RESC1608[0603]S-M (0603贴片电阻 有丝印 2脚 1.60x0.80mm IPC低密度)
footprint RESC1608[0603]S-N (0603贴片电阻 有丝印 2脚 1.60x0.80mm IPC中密度)
footprint RESC2012[0805] (0805贴片电阻 无丝印 2脚 2.00x1.20mm IPC高密度)
footprint RESC2012[0805]S-L (0805贴片电阻 有丝印 2脚 2.00x1.20mm IPC高密度)
footprint RESC2012[0805]S-M (0805贴片电阻 有丝印 2脚 2.00x1.20mm IPC低密度)
footprint RESC2012[0805]S-N (0805贴片电阻 有丝印 2脚 2.00x1.20mm IPC中密度)
footprint RESC3216[1206] (1206贴片电阻 无丝印 2脚 3.20x1.60mm IPC高密度)
footprint RESC3216[1206]S-L (1206贴片电阻 有丝印 2脚 3.20x1.60mm IPC高密度)
footprint RESC3216[1206]S-M (1206贴片电阻 有丝印 2脚 3.20x1.60mm IPC低密度)
footprint RESC3216[1206]S-N (1206贴片电阻 有丝印 2脚 3.20x1.60mm IPC中密度)
footprint RESC3225[1210] (Chip Resistor, 2-Leads, Body 3.20x2.49mm, IPC Medium Density)
footprint RESC3225[1210]S (Silkscreen Outside, Chip Resistor, 2-Leads, Body 3.20x2.49mm, IPC Medium Density)
footprint RESC5025[2010] (Chip Resistor, 2-Leads, Body 5.00x2.50mm, IPC Medium Density)
footprint RESC5025[2010]S (Silkscreen Outside, Chip Resistor, 2-Leads, Body 5.00x2.50mm, IPC Medium Density)
footprint RESC6332[2512] (2512贴片电阻 无丝印 2脚 6.30x3.20mm IPC中密度)
footprint RESC6332[2512]S (2512贴片电阻 有丝印 2脚 6.30x3.20mm IPC中密度)
pins: 1, 2

## Res-Chip_6
designator R?, comment value 1K  (hidden comment: 1K ±1%)
贴片电阻; Power: 1/8W; Revision: V1.0; Tolerance: ±1%
footprint RESC0603[0201]-L (0201贴片电阻 无丝印 2脚 0.60x0.30mm IPC高密度)
footprint RESC0603[0201]-M (0201贴片电阻 无丝印 2脚 0.60x0.30mm IPC低密度)
footprint RESC0603[0201]-N (0201贴片电阻 无丝印 2脚 0.60x0.30mm IPC中密度)
footprint RESC0603[0201]S-L (0201贴片电阻 有丝印 2脚 0.60x0.30mm IPC高密度)
footprint RESC0603[0201]S-M (0201贴片电阻 有丝印 2脚 0.60x0.30mm IPC低密度)
footprint RESC0603[0201]S-N (0201贴片电阻 有丝印 2脚 0.60x0.30mm IPC中密度)
footprint RESC1005[0402]-L (0402贴片电阻 无丝印 2脚 1.00x0.50mm IPC高密度)
footprint RESC1005[0402]S-M (0402贴片电阻 有丝印 2脚 1.00x0.50mm IPC低密度)
footprint RESC1005[0402]-M (0402贴片电阻 无丝印 2脚 1.00x0.50mm IPC低密度)
footprint RESC1005[0402]-N (0402贴片电阻 无丝印 2脚 1.00x0.50mm IPC中密度)
footprint RESC1005[0402]S-L (0402贴片电阻 有丝印 2脚 1.00x0.50mm IPC高密度)
footprint RESC1005[0402]S-N (0402贴片电阻 有丝印 2脚 1.00x0.50mm IPC中密度)
footprint RESC1608[0603]-L (0603贴片电阻 无丝印 2脚 1.60x0.80mm IPC高密度)
footprint RESC1608[0603]-M (0603贴片电阻 无丝印 2脚 1.60x0.80mm IPC低密度)
footprint RESC1608[0603]-N (0603贴片电阻 无丝印 2脚 1.60x0.80mm IPC中密度)
footprint RESC1608[0603]S-L (0603贴片电阻 有丝印 2脚 1.60x0.80mm IPC高密度)
footprint RESC1608[0603]S-M (0603贴片电阻 有丝印 2脚 1.60x0.80mm IPC低密度)
footprint RESC1608[0603]S-N (0603贴片电阻 有丝印 2脚 1.60x0.80mm IPC中密度)
footprint RESC2012[0805] (0805贴片电阻 无丝印 2脚 2.00x1.20mm IPC高密度)
footprint RESC2012[0805]S-L (0805贴片电阻 有丝印 2脚 2.00x1.20mm IPC高密度)
footprint RESC2012[0805]S-M (0805贴片电阻 有丝印 2脚 2.00x1.20mm IPC低密度)
footprint RESC2012[0805]S-N (0805贴片电阻 有丝印 2脚 2.00x1.20mm IPC中密度)
footprint RESC3216[1206] (1206贴片电阻 无丝印 2脚 3.20x1.60mm IPC高密度)
footprint RESC3216[1206]S-L (1206贴片电阻 有丝印 2脚 3.20x1.60mm IPC高密度)
footprint RESC3216[1206]S-M (1206贴片电阻 有丝印 2脚 3.20x1.60mm IPC低密度)
footprint RESC3216[1206]S-N (1206贴片电阻 有丝印 2脚 3.20x1.60mm IPC中密度)
footprint RESC3225[1210] (Chip Resistor, 2-Leads, Body 3.20x2.49mm, IPC Medium Density)
footprint RESC3225[1210]S (Silkscreen Outside, Chip Resistor, 2-Leads, Body 3.20x2.49mm, IPC Medium Density)
footprint RESC5025[2010] (Chip Resistor, 2-Leads, Body 5.00x2.50mm, IPC Medium Density)
footprint RESC5025[2010]S (Silkscreen Outside, Chip Resistor, 2-Leads, Body 5.00x2.50mm, IPC Medium Density)
footprint RESC6332[2512] (2512贴片电阻 无丝印 2脚 6.30x3.20mm IPC中密度)
footprint RESC6332[2512]S (2512贴片电阻 有丝印 2脚 6.30x3.20mm IPC中密度)
pins: 1, 2

## Res-Chip_7
designator R?, comment value 20K  (hidden comment: 20K ±1%)
贴片电阻; Power: 1/8W; Revision: V1.0; Tolerance: ±1%
footprint RESC0603[0201]-L (0201贴片电阻 无丝印 2脚 0.60x0.30mm IPC高密度)
footprint RESC0603[0201]-M (0201贴片电阻 无丝印 2脚 0.60x0.30mm IPC低密度)
footprint RESC0603[0201]-N (0201贴片电阻 无丝印 2脚 0.60x0.30mm IPC中密度)
footprint RESC0603[0201]S-L (0201贴片电阻 有丝印 2脚 0.60x0.30mm IPC高密度)
footprint RESC0603[0201]S-M (0201贴片电阻 有丝印 2脚 0.60x0.30mm IPC低密度)
footprint RESC0603[0201]S-N (0201贴片电阻 有丝印 2脚 0.60x0.30mm IPC中密度)
footprint RESC1005[0402]-L (0402贴片电阻 无丝印 2脚 1.00x0.50mm IPC高密度)
footprint RESC1005[0402]S-M (0402贴片电阻 有丝印 2脚 1.00x0.50mm IPC低密度)
footprint RESC1005[0402]-M (0402贴片电阻 无丝印 2脚 1.00x0.50mm IPC低密度)
footprint RESC1005[0402]-N (0402贴片电阻 无丝印 2脚 1.00x0.50mm IPC中密度)
footprint RESC1005[0402]S-L (0402贴片电阻 有丝印 2脚 1.00x0.50mm IPC高密度)
footprint RESC1005[0402]S-N (0402贴片电阻 有丝印 2脚 1.00x0.50mm IPC中密度)
footprint RESC1608[0603]-L (0603贴片电阻 无丝印 2脚 1.60x0.80mm IPC高密度)
footprint RESC1608[0603]-M (0603贴片电阻 无丝印 2脚 1.60x0.80mm IPC低密度)
footprint RESC1608[0603]-N (0603贴片电阻 无丝印 2脚 1.60x0.80mm IPC中密度)
footprint RESC1608[0603]S-L (0603贴片电阻 有丝印 2脚 1.60x0.80mm IPC高密度)
footprint RESC1608[0603]S-M (0603贴片电阻 有丝印 2脚 1.60x0.80mm IPC低密度)
footprint RESC1608[0603]S-N (0603贴片电阻 有丝印 2脚 1.60x0.80mm IPC中密度)
footprint RESC2012[0805] (0805贴片电阻 无丝印 2脚 2.00x1.20mm IPC高密度)
footprint RESC2012[0805]S-L (0805贴片电阻 有丝印 2脚 2.00x1.20mm IPC高密度)
footprint RESC2012[0805]S-M (0805贴片电阻 有丝印 2脚 2.00x1.20mm IPC低密度)
footprint RESC2012[0805]S-N (0805贴片电阻 有丝印 2脚 2.00x1.20mm IPC中密度)
footprint RESC3216[1206] (1206贴片电阻 无丝印 2脚 3.20x1.60mm IPC高密度)
footprint RESC3216[1206]S-L (1206贴片电阻 有丝印 2脚 3.20x1.60mm IPC高密度)
footprint RESC3216[1206]S-M (1206贴片电阻 有丝印 2脚 3.20x1.60mm IPC低密度)
footprint RESC3216[1206]S-N (1206贴片电阻 有丝印 2脚 3.20x1.60mm IPC中密度)
footprint RESC3225[1210] (Chip Resistor, 2-Leads, Body 3.20x2.49mm, IPC Medium Density)
footprint RESC3225[1210]S (Silkscreen Outside, Chip Resistor, 2-Leads, Body 3.20x2.49mm, IPC Medium Density)
footprint RESC5025[2010] (Chip Resistor, 2-Leads, Body 5.00x2.50mm, IPC Medium Density)
footprint RESC5025[2010]S (Silkscreen Outside, Chip Resistor, 2-Leads, Body 5.00x2.50mm, IPC Medium Density)
footprint RESC6332[2512] (2512贴片电阻 无丝印 2脚 6.30x3.20mm IPC中密度)
footprint RESC6332[2512]S (2512贴片电阻 有丝印 2脚 6.30x3.20mm IPC中密度)
pins: 1, 2

## Res-Chip_8
designator R?, comment value 73.2K  (hidden comment: 73.2K ±1%)
贴片电阻; Power: 1/8W; Revision: V1.0; Tolerance: ±1%
footprint RESC0603[0201]-L (0201贴片电阻 无丝印 2脚 0.60x0.30mm IPC高密度)
footprint RESC0603[0201]-M (0201贴片电阻 无丝印 2脚 0.60x0.30mm IPC低密度)
footprint RESC0603[0201]-N (0201贴片电阻 无丝印 2脚 0.60x0.30mm IPC中密度)
footprint RESC0603[0201]S-L (0201贴片电阻 有丝印 2脚 0.60x0.30mm IPC高密度)
footprint RESC0603[0201]S-M (0201贴片电阻 有丝印 2脚 0.60x0.30mm IPC低密度)
footprint RESC0603[0201]S-N (0201贴片电阻 有丝印 2脚 0.60x0.30mm IPC中密度)
footprint RESC1005[0402]-L (0402贴片电阻 无丝印 2脚 1.00x0.50mm IPC高密度)
footprint RESC1005[0402]S-M (0402贴片电阻 有丝印 2脚 1.00x0.50mm IPC低密度)
footprint RESC1005[0402]-M (0402贴片电阻 无丝印 2脚 1.00x0.50mm IPC低密度)
footprint RESC1005[0402]-N (0402贴片电阻 无丝印 2脚 1.00x0.50mm IPC中密度)
footprint RESC1005[0402]S-L (0402贴片电阻 有丝印 2脚 1.00x0.50mm IPC高密度)
footprint RESC1005[0402]S-N (0402贴片电阻 有丝印 2脚 1.00x0.50mm IPC中密度)
footprint RESC1608[0603]-L (0603贴片电阻 无丝印 2脚 1.60x0.80mm IPC高密度)
footprint RESC1608[0603]-M (0603贴片电阻 无丝印 2脚 1.60x0.80mm IPC低密度)
footprint RESC1608[0603]-N (0603贴片电阻 无丝印 2脚 1.60x0.80mm IPC中密度)
footprint RESC1608[0603]S-L (0603贴片电阻 有丝印 2脚 1.60x0.80mm IPC高密度)
footprint RESC1608[0603]S-M (0603贴片电阻 有丝印 2脚 1.60x0.80mm IPC低密度)
footprint RESC1608[0603]S-N (0603贴片电阻 有丝印 2脚 1.60x0.80mm IPC中密度)
footprint RESC2012[0805] (0805贴片电阻 无丝印 2脚 2.00x1.20mm IPC高密度)
footprint RESC2012[0805]S-L (0805贴片电阻 有丝印 2脚 2.00x1.20mm IPC高密度)
footprint RESC2012[0805]S-M (0805贴片电阻 有丝印 2脚 2.00x1.20mm IPC低密度)
footprint RESC2012[0805]S-N (0805贴片电阻 有丝印 2脚 2.00x1.20mm IPC中密度)
footprint RESC3216[1206] (1206贴片电阻 无丝印 2脚 3.20x1.60mm IPC高密度)
footprint RESC3216[1206]S-L (1206贴片电阻 有丝印 2脚 3.20x1.60mm IPC高密度)
footprint RESC3216[1206]S-M (1206贴片电阻 有丝印 2脚 3.20x1.60mm IPC低密度)
footprint RESC3216[1206]S-N (1206贴片电阻 有丝印 2脚 3.20x1.60mm IPC中密度)
footprint RESC3225[1210] (Chip Resistor, 2-Leads, Body 3.20x2.49mm, IPC Medium Density)
footprint RESC3225[1210]S (Silkscreen Outside, Chip Resistor, 2-Leads, Body 3.20x2.49mm, IPC Medium Density)
footprint RESC5025[2010] (Chip Resistor, 2-Leads, Body 5.00x2.50mm, IPC Medium Density)
footprint RESC5025[2010]S (Silkscreen Outside, Chip Resistor, 2-Leads, Body 5.00x2.50mm, IPC Medium Density)
footprint RESC6332[2512] (2512贴片电阻 无丝印 2脚 6.30x3.20mm IPC中密度)
footprint RESC6332[2512]S (2512贴片电阻 有丝印 2脚 6.30x3.20mm IPC中密度)
pins: 1, 2

## Res-Chip_9
designator R?, comment value 100K  (hidden comment: 100K ±1%)
贴片电阻; Power: 1/8W; Revision: V1.0; Tolerance: ±1%
footprint RESC0603[0201]-L (0201贴片电阻 无丝印 2脚 0.60x0.30mm IPC高密度)
footprint RESC0603[0201]-M (0201贴片电阻 无丝印 2脚 0.60x0.30mm IPC低密度)
footprint RESC0603[0201]-N (0201贴片电阻 无丝印 2脚 0.60x0.30mm IPC中密度)
footprint RESC0603[0201]S-L (0201贴片电阻 有丝印 2脚 0.60x0.30mm IPC高密度)
footprint RESC0603[0201]S-M (0201贴片电阻 有丝印 2脚 0.60x0.30mm IPC低密度)
footprint RESC0603[0201]S-N (0201贴片电阻 有丝印 2脚 0.60x0.30mm IPC中密度)
footprint RESC1005[0402]-L (0402贴片电阻 无丝印 2脚 1.00x0.50mm IPC高密度)
footprint RESC1005[0402]S-M (0402贴片电阻 有丝印 2脚 1.00x0.50mm IPC低密度)
footprint RESC1005[0402]-M (0402贴片电阻 无丝印 2脚 1.00x0.50mm IPC低密度)
footprint RESC1005[0402]-N (0402贴片电阻 无丝印 2脚 1.00x0.50mm IPC中密度)
footprint RESC1005[0402]S-L (0402贴片电阻 有丝印 2脚 1.00x0.50mm IPC高密度)
footprint RESC1005[0402]S-N (0402贴片电阻 有丝印 2脚 1.00x0.50mm IPC中密度)
footprint RESC1608[0603]-L (0603贴片电阻 无丝印 2脚 1.60x0.80mm IPC高密度)
footprint RESC1608[0603]-M (0603贴片电阻 无丝印 2脚 1.60x0.80mm IPC低密度)
footprint RESC1608[0603]-N (0603贴片电阻 无丝印 2脚 1.60x0.80mm IPC中密度)
footprint RESC1608[0603]S-L (0603贴片电阻 有丝印 2脚 1.60x0.80mm IPC高密度)
footprint RESC1608[0603]S-M (0603贴片电阻 有丝印 2脚 1.60x0.80mm IPC低密度)
footprint RESC1608[0603]S-N (0603贴片电阻 有丝印 2脚 1.60x0.80mm IPC中密度)
footprint RESC2012[0805] (0805贴片电阻 无丝印 2脚 2.00x1.20mm IPC高密度)
footprint RESC2012[0805]S-L (0805贴片电阻 有丝印 2脚 2.00x1.20mm IPC高密度)
footprint RESC2012[0805]S-M (0805贴片电阻 有丝印 2脚 2.00x1.20mm IPC低密度)
footprint RESC2012[0805]S-N (0805贴片电阻 有丝印 2脚 2.00x1.20mm IPC中密度)
footprint RESC3216[1206] (1206贴片电阻 无丝印 2脚 3.20x1.60mm IPC高密度)
footprint RESC3216[1206]S-L (1206贴片电阻 有丝印 2脚 3.20x1.60mm IPC高密度)
footprint RESC3216[1206]S-M (1206贴片电阻 有丝印 2脚 3.20x1.60mm IPC低密度)
footprint RESC3216[1206]S-N (1206贴片电阻 有丝印 2脚 3.20x1.60mm IPC中密度)
footprint RESC3225[1210] (Chip Resistor, 2-Leads, Body 3.20x2.49mm, IPC Medium Density)
footprint RESC3225[1210]S (Silkscreen Outside, Chip Resistor, 2-Leads, Body 3.20x2.49mm, IPC Medium Density)
footprint RESC5025[2010] (Chip Resistor, 2-Leads, Body 5.00x2.50mm, IPC Medium Density)
footprint RESC5025[2010]S (Silkscreen Outside, Chip Resistor, 2-Leads, Body 5.00x2.50mm, IPC Medium Density)
footprint RESC6332[2512] (2512贴片电阻 无丝印 2脚 6.30x3.20mm IPC中密度)
footprint RESC6332[2512]S (2512贴片电阻 有丝印 2脚 6.30x3.20mm IPC中密度)
pins: 1, 2

## Res-Chip_10
designator R?, comment value 200K  (hidden comment: 200K ±1%)
贴片电阻; Power: 1/8W; Revision: V1.0; Tolerance: ±1%
footprint RESC0603[0201]-L (0201贴片电阻 无丝印 2脚 0.60x0.30mm IPC高密度)
footprint RESC0603[0201]-M (0201贴片电阻 无丝印 2脚 0.60x0.30mm IPC低密度)
footprint RESC0603[0201]-N (0201贴片电阻 无丝印 2脚 0.60x0.30mm IPC中密度)
footprint RESC0603[0201]S-L (0201贴片电阻 有丝印 2脚 0.60x0.30mm IPC高密度)
footprint RESC0603[0201]S-M (0201贴片电阻 有丝印 2脚 0.60x0.30mm IPC低密度)
footprint RESC0603[0201]S-N (0201贴片电阻 有丝印 2脚 0.60x0.30mm IPC中密度)
footprint RESC1005[0402]-L (0402贴片电阻 无丝印 2脚 1.00x0.50mm IPC高密度)
footprint RESC1005[0402]S-M (0402贴片电阻 有丝印 2脚 1.00x0.50mm IPC低密度)
footprint RESC1005[0402]-M (0402贴片电阻 无丝印 2脚 1.00x0.50mm IPC低密度)
footprint RESC1005[0402]-N (0402贴片电阻 无丝印 2脚 1.00x0.50mm IPC中密度)
footprint RESC1005[0402]S-L (0402贴片电阻 有丝印 2脚 1.00x0.50mm IPC高密度)
footprint RESC1005[0402]S-N (0402贴片电阻 有丝印 2脚 1.00x0.50mm IPC中密度)
footprint RESC1608[0603]-L (0603贴片电阻 无丝印 2脚 1.60x0.80mm IPC高密度)
footprint RESC1608[0603]-M (0603贴片电阻 无丝印 2脚 1.60x0.80mm IPC低密度)
footprint RESC1608[0603]-N (0603贴片电阻 无丝印 2脚 1.60x0.80mm IPC中密度)
footprint RESC1608[0603]S-L (0603贴片电阻 有丝印 2脚 1.60x0.80mm IPC高密度)
footprint RESC1608[0603]S-M (0603贴片电阻 有丝印 2脚 1.60x0.80mm IPC低密度)
footprint RESC1608[0603]S-N (0603贴片电阻 有丝印 2脚 1.60x0.80mm IPC中密度)
footprint RESC2012[0805] (0805贴片电阻 无丝印 2脚 2.00x1.20mm IPC高密度)
footprint RESC2012[0805]S-L (0805贴片电阻 有丝印 2脚 2.00x1.20mm IPC高密度)
footprint RESC2012[0805]S-M (0805贴片电阻 有丝印 2脚 2.00x1.20mm IPC低密度)
footprint RESC2012[0805]S-N (0805贴片电阻 有丝印 2脚 2.00x1.20mm IPC中密度)
footprint RESC3216[1206] (1206贴片电阻 无丝印 2脚 3.20x1.60mm IPC高密度)
footprint RESC3216[1206]S-L (1206贴片电阻 有丝印 2脚 3.20x1.60mm IPC高密度)
footprint RESC3216[1206]S-M (1206贴片电阻 有丝印 2脚 3.20x1.60mm IPC低密度)
footprint RESC3216[1206]S-N (1206贴片电阻 有丝印 2脚 3.20x1.60mm IPC中密度)
footprint RESC3225[1210] (Chip Resistor, 2-Leads, Body 3.20x2.49mm, IPC Medium Density)
footprint RESC3225[1210]S (Silkscreen Outside, Chip Resistor, 2-Leads, Body 3.20x2.49mm, IPC Medium Density)
footprint RESC5025[2010] (Chip Resistor, 2-Leads, Body 5.00x2.50mm, IPC Medium Density)
footprint RESC5025[2010]S (Silkscreen Outside, Chip Resistor, 2-Leads, Body 5.00x2.50mm, IPC Medium Density)
footprint RESC6332[2512] (2512贴片电阻 无丝印 2脚 6.30x3.20mm IPC中密度)
footprint RESC6332[2512]S (2512贴片电阻 有丝印 2脚 6.30x3.20mm IPC中密度)
pins: 1, 2

## Res-Chip_11
designator R?, comment value 140K  (hidden comment: 140K ±1%)
贴片电阻; Power: 1/8W; Revision: V1.0; Tolerance: ±1%
footprint RESC0603[0201]-L (0201贴片电阻 无丝印 2脚 0.60x0.30mm IPC高密度)
footprint RESC0603[0201]-M (0201贴片电阻 无丝印 2脚 0.60x0.30mm IPC低密度)
footprint RESC0603[0201]-N (0201贴片电阻 无丝印 2脚 0.60x0.30mm IPC中密度)
footprint RESC0603[0201]S-L (0201贴片电阻 有丝印 2脚 0.60x0.30mm IPC高密度)
footprint RESC0603[0201]S-M (0201贴片电阻 有丝印 2脚 0.60x0.30mm IPC低密度)
footprint RESC0603[0201]S-N (0201贴片电阻 有丝印 2脚 0.60x0.30mm IPC中密度)
footprint RESC1005[0402]-L (0402贴片电阻 无丝印 2脚 1.00x0.50mm IPC高密度)
footprint RESC1005[0402]S-M (0402贴片电阻 有丝印 2脚 1.00x0.50mm IPC低密度)
footprint RESC1005[0402]-M (0402贴片电阻 无丝印 2脚 1.00x0.50mm IPC低密度)
footprint RESC1005[0402]-N (0402贴片电阻 无丝印 2脚 1.00x0.50mm IPC中密度)
footprint RESC1005[0402]S-L (0402贴片电阻 有丝印 2脚 1.00x0.50mm IPC高密度)
footprint RESC1005[0402]S-N (0402贴片电阻 有丝印 2脚 1.00x0.50mm IPC中密度)
footprint RESC1608[0603]-L (0603贴片电阻 无丝印 2脚 1.60x0.80mm IPC高密度)
footprint RESC1608[0603]-M (0603贴片电阻 无丝印 2脚 1.60x0.80mm IPC低密度)
footprint RESC1608[0603]-N (0603贴片电阻 无丝印 2脚 1.60x0.80mm IPC中密度)
footprint RESC1608[0603]S-L (0603贴片电阻 有丝印 2脚 1.60x0.80mm IPC高密度)
footprint RESC1608[0603]S-M (0603贴片电阻 有丝印 2脚 1.60x0.80mm IPC低密度)
footprint RESC1608[0603]S-N (0603贴片电阻 有丝印 2脚 1.60x0.80mm IPC中密度)
footprint RESC2012[0805] (0805贴片电阻 无丝印 2脚 2.00x1.20mm IPC高密度)
footprint RESC2012[0805]S-L (0805贴片电阻 有丝印 2脚 2.00x1.20mm IPC高密度)
footprint RESC2012[0805]S-M (0805贴片电阻 有丝印 2脚 2.00x1.20mm IPC低密度)
footprint RESC2012[0805]S-N (0805贴片电阻 有丝印 2脚 2.00x1.20mm IPC中密度)
footprint RESC3216[1206] (1206贴片电阻 无丝印 2脚 3.20x1.60mm IPC高密度)
footprint RESC3216[1206]S-L (1206贴片电阻 有丝印 2脚 3.20x1.60mm IPC高密度)
footprint RESC3216[1206]S-M (1206贴片电阻 有丝印 2脚 3.20x1.60mm IPC低密度)
footprint RESC3216[1206]S-N (1206贴片电阻 有丝印 2脚 3.20x1.60mm IPC中密度)
footprint RESC3225[1210] (Chip Resistor, 2-Leads, Body 3.20x2.49mm, IPC Medium Density)
footprint RESC3225[1210]S (Silkscreen Outside, Chip Resistor, 2-Leads, Body 3.20x2.49mm, IPC Medium Density)
footprint RESC5025[2010] (Chip Resistor, 2-Leads, Body 5.00x2.50mm, IPC Medium Density)
footprint RESC5025[2010]S (Silkscreen Outside, Chip Resistor, 2-Leads, Body 5.00x2.50mm, IPC Medium Density)
footprint RESC6332[2512] (2512贴片电阻 无丝印 2脚 6.30x3.20mm IPC中密度)
footprint RESC6332[2512]S (2512贴片电阻 有丝印 2脚 6.30x3.20mm IPC中密度)
pins: 1, 2

## Res-Chip_12
designator R?, comment value 45.3K  (hidden comment: 45.3K ±1%)
贴片电阻; Power: 1/8W; Revision: V1.0; Tolerance: ±1%
footprint RESC0603[0201]-L (0201贴片电阻 无丝印 2脚 0.60x0.30mm IPC高密度)
footprint RESC0603[0201]-M (0201贴片电阻 无丝印 2脚 0.60x0.30mm IPC低密度)
footprint RESC0603[0201]-N (0201贴片电阻 无丝印 2脚 0.60x0.30mm IPC中密度)
footprint RESC0603[0201]S-L (0201贴片电阻 有丝印 2脚 0.60x0.30mm IPC高密度)
footprint RESC0603[0201]S-M (0201贴片电阻 有丝印 2脚 0.60x0.30mm IPC低密度)
footprint RESC0603[0201]S-N (0201贴片电阻 有丝印 2脚 0.60x0.30mm IPC中密度)
footprint RESC1005[0402]-L (0402贴片电阻 无丝印 2脚 1.00x0.50mm IPC高密度)
footprint RESC1005[0402]S-M (0402贴片电阻 有丝印 2脚 1.00x0.50mm IPC低密度)
footprint RESC1005[0402]-M (0402贴片电阻 无丝印 2脚 1.00x0.50mm IPC低密度)
footprint RESC1005[0402]-N (0402贴片电阻 无丝印 2脚 1.00x0.50mm IPC中密度)
footprint RESC1005[0402]S-L (0402贴片电阻 有丝印 2脚 1.00x0.50mm IPC高密度)
footprint RESC1005[0402]S-N (0402贴片电阻 有丝印 2脚 1.00x0.50mm IPC中密度)
footprint RESC1608[0603]-L (0603贴片电阻 无丝印 2脚 1.60x0.80mm IPC高密度)
footprint RESC1608[0603]-M (0603贴片电阻 无丝印 2脚 1.60x0.80mm IPC低密度)
footprint RESC1608[0603]-N (0603贴片电阻 无丝印 2脚 1.60x0.80mm IPC中密度)
footprint RESC1608[0603]S-L (0603贴片电阻 有丝印 2脚 1.60x0.80mm IPC高密度)
footprint RESC1608[0603]S-M (0603贴片电阻 有丝印 2脚 1.60x0.80mm IPC低密度)
footprint RESC1608[0603]S-N (0603贴片电阻 有丝印 2脚 1.60x0.80mm IPC中密度)
footprint RESC2012[0805] (0805贴片电阻 无丝印 2脚 2.00x1.20mm IPC高密度)
footprint RESC2012[0805]S-L (0805贴片电阻 有丝印 2脚 2.00x1.20mm IPC高密度)
footprint RESC2012[0805]S-M (0805贴片电阻 有丝印 2脚 2.00x1.20mm IPC低密度)
footprint RESC2012[0805]S-N (0805贴片电阻 有丝印 2脚 2.00x1.20mm IPC中密度)
footprint RESC3216[1206] (1206贴片电阻 无丝印 2脚 3.20x1.60mm IPC高密度)
footprint RESC3216[1206]S-L (1206贴片电阻 有丝印 2脚 3.20x1.60mm IPC高密度)
footprint RESC3216[1206]S-M (1206贴片电阻 有丝印 2脚 3.20x1.60mm IPC低密度)
footprint RESC3216[1206]S-N (1206贴片电阻 有丝印 2脚 3.20x1.60mm IPC中密度)
footprint RESC3225[1210] (Chip Resistor, 2-Leads, Body 3.20x2.49mm, IPC Medium Density)
footprint RESC3225[1210]S (Silkscreen Outside, Chip Resistor, 2-Leads, Body 3.20x2.49mm, IPC Medium Density)
footprint RESC5025[2010] (Chip Resistor, 2-Leads, Body 5.00x2.50mm, IPC Medium Density)
footprint RESC5025[2010]S (Silkscreen Outside, Chip Resistor, 2-Leads, Body 5.00x2.50mm, IPC Medium Density)
footprint RESC6332[2512] (2512贴片电阻 无丝印 2脚 6.30x3.20mm IPC中密度)
footprint RESC6332[2512]S (2512贴片电阻 有丝印 2脚 6.30x3.20mm IPC中密度)
pins: 1, 2

## Res-Chip_13
designator R?, comment value 150K  (hidden comment: 150K ±1%)
贴片电阻; Power: 1/8W; Revision: V1.0; Tolerance: ±1%
footprint RESC0603[0201]-L (0201贴片电阻 无丝印 2脚 0.60x0.30mm IPC高密度)
footprint RESC0603[0201]-M (0201贴片电阻 无丝印 2脚 0.60x0.30mm IPC低密度)
footprint RESC0603[0201]-N (0201贴片电阻 无丝印 2脚 0.60x0.30mm IPC中密度)
footprint RESC0603[0201]S-L (0201贴片电阻 有丝印 2脚 0.60x0.30mm IPC高密度)
footprint RESC0603[0201]S-M (0201贴片电阻 有丝印 2脚 0.60x0.30mm IPC低密度)
footprint RESC0603[0201]S-N (0201贴片电阻 有丝印 2脚 0.60x0.30mm IPC中密度)
footprint RESC1005[0402]-L (0402贴片电阻 无丝印 2脚 1.00x0.50mm IPC高密度)
footprint RESC1005[0402]S-M (0402贴片电阻 有丝印 2脚 1.00x0.50mm IPC低密度)
footprint RESC1005[0402]-M (0402贴片电阻 无丝印 2脚 1.00x0.50mm IPC低密度)
footprint RESC1005[0402]-N (0402贴片电阻 无丝印 2脚 1.00x0.50mm IPC中密度)
footprint RESC1005[0402]S-L (0402贴片电阻 有丝印 2脚 1.00x0.50mm IPC高密度)
footprint RESC1005[0402]S-N (0402贴片电阻 有丝印 2脚 1.00x0.50mm IPC中密度)
footprint RESC1608[0603]-L (0603贴片电阻 无丝印 2脚 1.60x0.80mm IPC高密度)
footprint RESC1608[0603]-M (0603贴片电阻 无丝印 2脚 1.60x0.80mm IPC低密度)
footprint RESC1608[0603]-N (0603贴片电阻 无丝印 2脚 1.60x0.80mm IPC中密度)
footprint RESC1608[0603]S-L (0603贴片电阻 有丝印 2脚 1.60x0.80mm IPC高密度)
footprint RESC1608[0603]S-M (0603贴片电阻 有丝印 2脚 1.60x0.80mm IPC低密度)
footprint RESC1608[0603]S-N (0603贴片电阻 有丝印 2脚 1.60x0.80mm IPC中密度)
footprint RESC2012[0805] (0805贴片电阻 无丝印 2脚 2.00x1.20mm IPC高密度)
footprint RESC2012[0805]S-L (0805贴片电阻 有丝印 2脚 2.00x1.20mm IPC高密度)
footprint RESC2012[0805]S-M (0805贴片电阻 有丝印 2脚 2.00x1.20mm IPC低密度)
footprint RESC2012[0805]S-N (0805贴片电阻 有丝印 2脚 2.00x1.20mm IPC中密度)
footprint RESC3216[1206] (1206贴片电阻 无丝印 2脚 3.20x1.60mm IPC高密度)
footprint RESC3216[1206]S-L (1206贴片电阻 有丝印 2脚 3.20x1.60mm IPC高密度)
footprint RESC3216[1206]S-M (1206贴片电阻 有丝印 2脚 3.20x1.60mm IPC低密度)
footprint RESC3216[1206]S-N (1206贴片电阻 有丝印 2脚 3.20x1.60mm IPC中密度)
footprint RESC3225[1210] (Chip Resistor, 2-Leads, Body 3.20x2.49mm, IPC Medium Density)
footprint RESC3225[1210]S (Silkscreen Outside, Chip Resistor, 2-Leads, Body 3.20x2.49mm, IPC Medium Density)
footprint RESC5025[2010] (Chip Resistor, 2-Leads, Body 5.00x2.50mm, IPC Medium Density)
footprint RESC5025[2010]S (Silkscreen Outside, Chip Resistor, 2-Leads, Body 5.00x2.50mm, IPC Medium Density)
footprint RESC6332[2512] (2512贴片电阻 无丝印 2脚 6.30x3.20mm IPC中密度)
footprint RESC6332[2512]S (2512贴片电阻 有丝印 2脚 6.30x3.20mm IPC中密度)
pins: 1, 2